# EAGLE library part ATA6561 (library nose-cone)
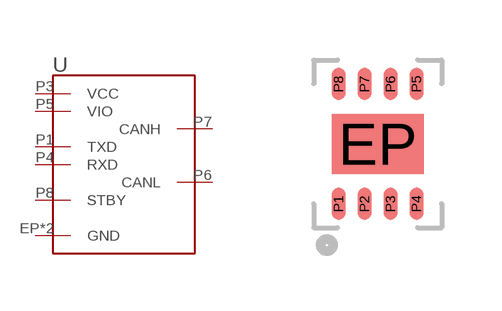
[diagram p1: symbol with the pads of VDFN8; footprint VDFN8]

Designator prefix U

## ATA6561  [VDFN8]
EP  GND
P1  TXD
P2  GND
P3  VCC
P4  RXD
P5  VIO
P6  CANL
P7  CANH
P8  STBY

## Footprint VDFN8 (pad centres in mm)
smd 2.3 x 1.5: EP 0,0
smd 0.35 x 0.8: P1 -0.975,-1.5; P2 -0.325,-1.5; P3 0.325,-1.5; P4 0.975,-1.5; P5 0.975,1.5; P6 0.325,1.5; P7 -0.325,1.5; P8 -0.975,1.5